# Altium schematic symbol library MB10S_SMD_AC-DC_Bridge.SchLib: 1 symbol
Pins are listed as number, name and electrical type; pins without a type are passive.

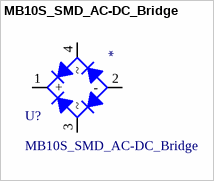
[diagram p0: symbol MB10S_SMD_AC-DC_Bridge]

## MB10S_SMD_AC-DC_Bridge
designator U?
MB10S_SMD_AC-DC_Bridge ROHS; LCSC: *
footprint MB10S_SMD_AC-DC_Bridge
pins: 1 +, 2 -, 3 ~, 4 ~